# Altium footprint library adafruit.PCBLIB: 643 footprints (part 25 of 41)
Each footprint in its own frame and in the unit in brackets; x right, y up, seen from the top. Pads: shape width x height; smd on the part's side, far side on the other; paste and mask are expansions set on the pad; w line width, h text height; cw(c..) or ccw(c..) is an arc to the next point about the centre after c.
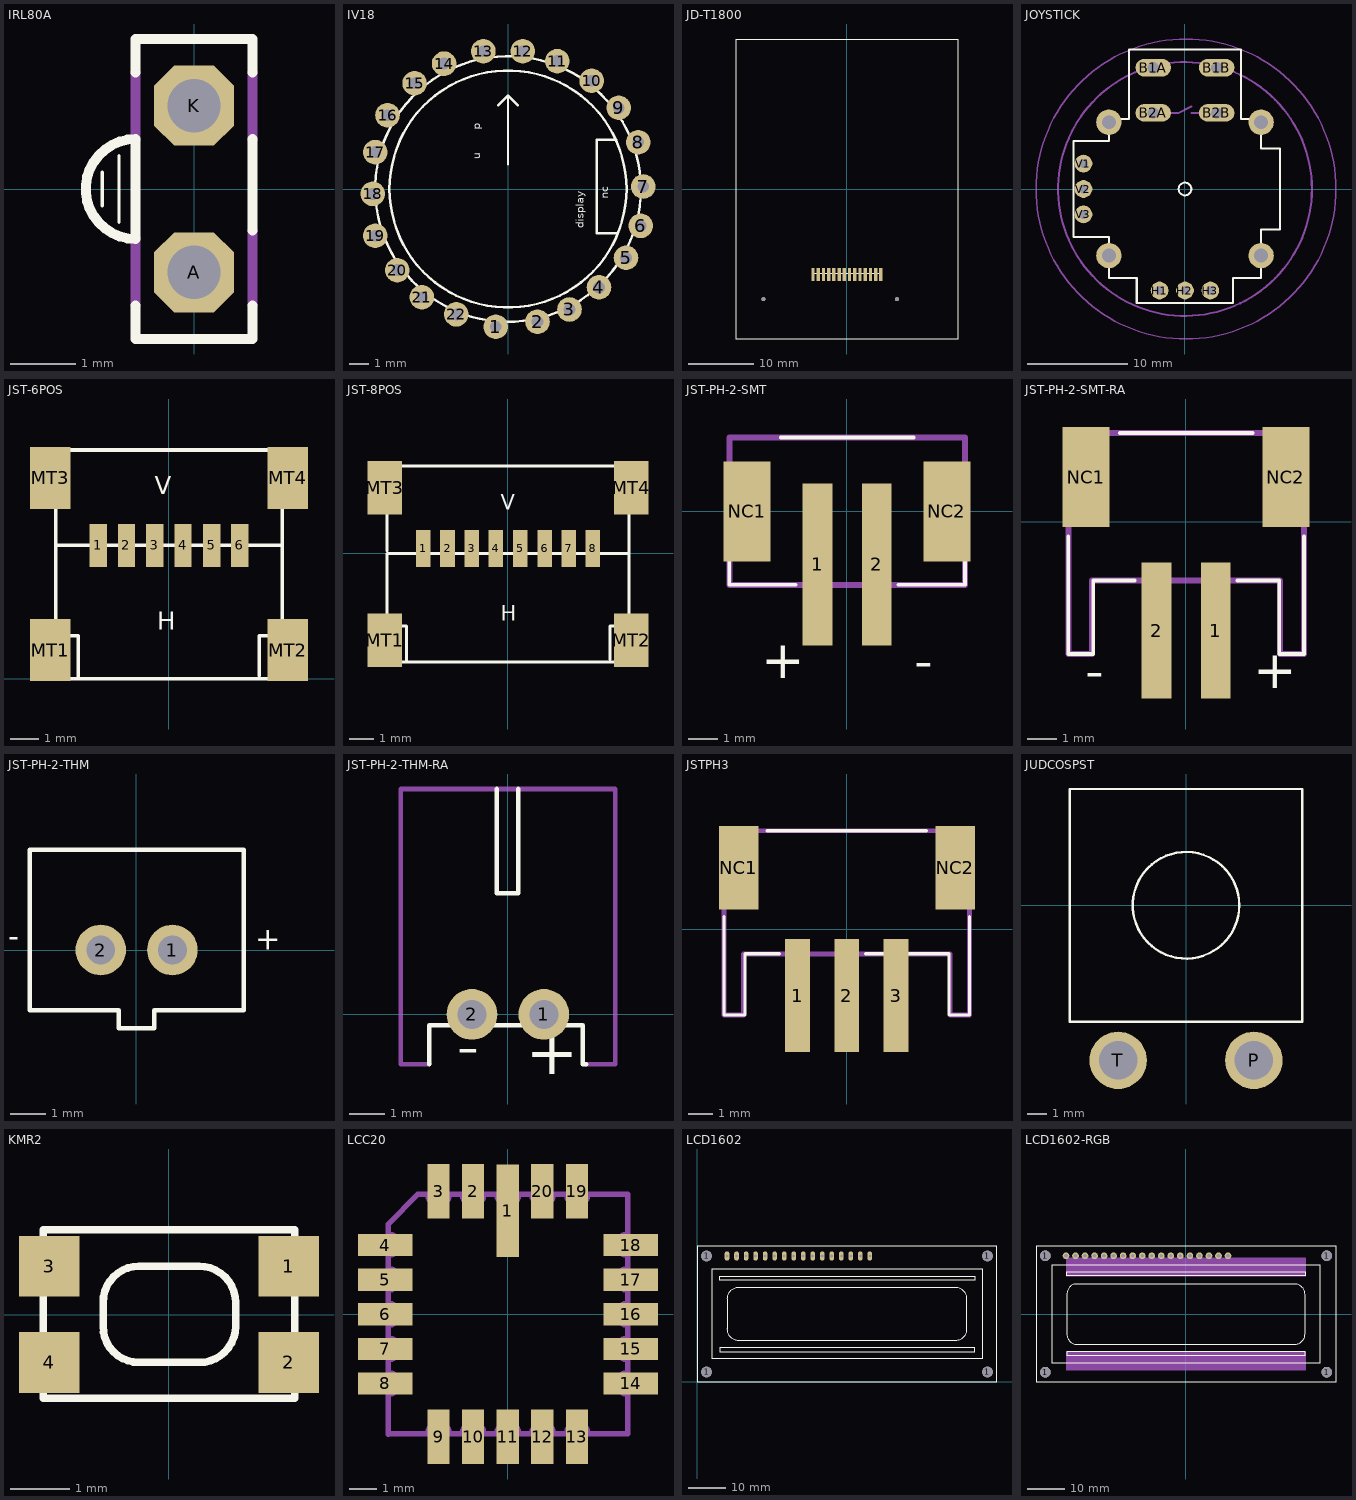
[diagram p24: the footprints below, top view; thin cyan lines are the x and y axes]

## IRL80A [mil]
pads (2):
  oct 48x48 hole 32: A(0,-50) K(0,50)
Top Overlay:
  lines w2: -55,-10 -55,10 ; -45,-20 -45,20
  lines w6: -35,-70 -35,-90 35,-90 35,-70 ; -35,70 -35,90 35,90 35,70 ; 35,-25 35,30 ; -35,-30 -35,30 ccw(c-35,0) -35,-30
Courtyard Bottom:
  lines w6: -35,-70 -35,-30 ; -35,30 -35,70 ; 35,-70 35,-25 ; 35,30 35,70

## IV18 [mil]
pads (22):
  round 50 hole 24: 1(-25,-280) 2(60,-270) 3(125,-245) 4(185,-200) 5(240,-140) 6(270,-75) 7(275,5) 8(265,95) 9(225,165) 10(170,220) 11(100,260) 12(30,280) 13(-50,280) 14(-130,255) 15(-190,215) 16(-245,150) 17(-270,75) 18(-275,-10) 19(-270,-95) 20(-225,-165) 21(-175,-220) 22(-105,-255)
Top Overlay:
  circle w5: c0,0 r241
  circle w5: c0,0 r270
  lines w5: -20,170 0,190 ; 0,50 0,190 ; 20,170 0,190 ; 220,-90 180,-90 180,100 220,100
  text "display" at 160,-80 h27.2
  text "nc" at 210,-20 h27.2
  text "u" at -50,60 h27.2
  text "p" at -50,120 h27.2

## JD-T1800 [mil]
pads (16):
  round 24 hole 24: 1(-503.94,-665.35) 1(302,-665.35)
  rect 20x79 smd: 1(205,-515.75) 2(174,-515.75) 3(142,-515.75) 4(111,-515.75) 5(79,-515.75) 6(48,-515.75) 7(16,-515.75) 8(-15.75,-515.75) 9(-47.24,-515.75) 10(-78.74,-515.75) 11(-110.24,-515.75) 12(-141.73,-515.75) 13(-173.23,-515.75) 14(-204.72,-515.75)
Top Overlay:
  lines w5: -204.72,-507.87 205,-507.87 ; -669.29,-905.51 670,-905.51 670,906 -669.29,906 -669.29,-905.51

## JOYSTICK [mil]
pads (14):
  oval 140x70 hole 44: B1A(-125,478) B1B(125,478) B2A(-125,300) B2B(125,300)
  round 70 hole 35: H1(-100,-400) H2(0,-400) H3(100,-400) V1(-400,100) V2(-400,0) V3(-400,-100)
  round 100 hole 55: MOUNT1(-300,263) MOUNT2(-300,-262.5) MOUNT3(300,-262.5) MOUNT4(300,263)
Top Overlay:
  circle w8: c0,0 r25
  lines w8: -440,-190 -300,-190 -300,-350 -190,-350 -190,-450 190,-450 190,-350 300,-350 300,-160 375,-160 375,160 300,160 300,275 220,275 220,550 -220,550 -220,275 -300,275 -300,190 -440,190 -440,-190
Courtyard Bottom:
  circle w8: c0,0 r500
  circle w5: c4,0 r591
  lines w8: -75,300 -25,300 25,325 ; 25,300 75,300

## JST-6POS [mil]
pads (10):
  rect 24x60 smd: 1(-98.43,186) 2(-59.06,186) 3(-19.68,186) 4(20,186) 5(60,186) 6(99,186)
  rect 56x87 smd: MT1(-165.35,40) MT2(166,40) MT3(-165.35,280) MT4(166,280)
Top Overlay:
  lines w5: 126,4 126,60 158,60 ; -157.48,60 -157.48,0 -125.98,0 ; -157.48,60 -157.48,186 ; -157.48,60 -125.98,60 -125.98,0 ; -157.48,186 158,186 ; -157.48,186 -157.48,319 158,319 158,186 ; -125.98,0 158,0 158,60 ; 158,60 158,186
  text "H" at -15.75,60 h42.5
  text "V" at -19.68,249 h42.5

## JST-8POS [mil]
pads (12):
  rect 24x60 smd: 1(-137.8,8) 2(-98.43,8) 3(-59.06,8) 4(-19.68,8) 5(20,8) 6(60,8) 7(99,8) 8(138,8)
  rect 56x87 smd: MT1(-200.79,-141.73) MT2(201,-141.73) MT3(-200.79,107) MT4(201,107)
Top Overlay:
  lines w5: -196.85,4 -196.85,142 197,142 197,0 ; 166,-173.23 166,-118.11 197,-118.11 ; -196.85,-118.11 -196.85,-177.17 -165.35,-177.17 ; -196.85,-118.11 -196.85,0 197,0 ; -196.85,-118.11 -165.35,-118.11 -165.35,-177.17 ; -165.35,-177.17 197,-177.17 197,-118.11 ; 197,-118.11 197,0
  text "V" at -11.81,63 h42.5
  text "H" at -11.81,-118.11 h42.5

## JST-PH-2-SMT [mil]
pads (4):
  rect 40x217 smd: 1(-39.37,-70.87) 2(40,-70.87)
  rect 63x134 smd: NC1(-133.86,0) NC2(134,0)
Top Overlay:
  lines w5: -157.48,-19.68 -157.48,-98.43 -68.9,-98.43 ; -88.58,99 89,99 ; 69,-98.43 158,-98.43 158,-19.68
  text "+" at -114.72,-240 h86.8
  text "-" at 90,-240 h86.8
Courtyard Bottom:
  lines w8: -157.48,-98.43 -157.48,99 158,99 158,-98.43 -157.48,-98.43

## JST-PH-2-SMT-RA [mil]
pads (4):
  rect 40x182 smd: 1(40,-145.67) 2(-39.37,-145.67)
  rect 63x134 smd: NC1(-133.86,60) NC2(134,60)
Top Overlay:
  lines w5: -157.48,-19.68 -157.48,-177.17 -124.02,-177.17 -124.02,-78.74 -68.9,-78.74 ; -88.58,119 89,119 ; 69,-78.74 125,-78.74 125,-177.17 158,-177.17 158,-19.68
  text "+" at 90,-240 h86.8
  text "-" at -135,-240 h86.8
Courtyard Bottom:
  lines w8: -157.48,-177.17 -157.48,119 158,119 158,-177.17 126,-177.17 126,-78.74 -125.98,-78.74 -125.98,-177.17 -157.48,-177.17

## JST-PH-2-THM [mil]
pads (2):
  round 56 hole 32: 1(40,0) 2(-39.37,0)
Top Overlay:
  lines w5: -118.11,-66.93 -19.68,-66.93 -19.68,-86.61 20,-86.61 20,-66.93 119,-66.93 119,111 -118.11,111 -118.11,-66.93
  text "+" at 160,30 h42.5
  text "-" at -130,30 h42.5

## JST-PH-2-THM-RA [mil]
pads (2):
  round 56 hole 32: 1(40,0) 2(-39.37,0)
Top Overlay:
  lines w5: -86.61,-55.12 -86.61,-11.81 83,-11.81 83,-55.12 87,-55.12 ; -11.81,249 -11.81,134 12,134 12,249
  text "+" at 20,-82.52 h86.8
  text "-" at -56.26,-74.65 h86.8
Courtyard Bottom:
  lines w5: -86.61,-55.12 -118.11,-55.12 -118.11,249 119,249 119,-55.12 87,-55.12

## JSTPH3 [mil]
pads (5):
  rect 40x182 smd: 1(-78.74,-106.3) 2(0,-106.3) 3(79,-106.3)
  rect 63x134 smd: NC1(-173.23,99) NC2(174,99)
Top Overlay:
  lines w5: -196.85,20 -196.85,-137.8 -163.39,-137.8 -163.39,-39.37 -108.27,-39.37 ; -127.95,158 128,158 ; 30,-39.37 164,-39.37 164,-137.8 197,-137.8 197,20
Courtyard Bottom:
  lines w8: -196.85,-137.8 -196.85,158 197,158 197,-137.8 166,-137.8 166,-39.37 -165.35,-39.37 -165.35,-137.8 -196.85,-137.8

## JUDCOSPST [mil]
pads (2):
  round 118.5 hole 79: P(140,-320) T(-140,-320)
Top Overlay:
  circle w5: c0,0 r110
  lines w5: -240,-240 240,-240 240,240 -240,240 -240,-240

## KMR2 [mil]
pads (4):
  rect 40x40 smd: 1(79,32) 2(79,-31.5) 3(-78.74,32) 4(-78.74,-31.5)
Top Overlay:
  lines w5: -82.68,-55.12 83,-55.12 83,56 -82.68,56 -82.68,-55.12 ; -43.31,-7.87 ccw(c-19.68,-7.87) -19.69,-31.5 20,-31.5 ccw(c20.19,-7.68) 44,-7.87 44,8 ccw(c20,8) 20,32 -19.68,32 ccw(c-19.5,8.19) -43.31,8 -43.31,-7.87

## LCC20 [mil]
pads (20):
  rect 32x134 smd: 1(0,150)
  rect 32x79 smd: 2(-50,178) 3(-100,178) 9(-100,-177.17) 10(-50,-177.17) 11(0,-177.17) 12(50,-177.17) 13(100,-177.17) 19(100,178) 20(50,178)
  rect 79x32 smd: 4(-177.17,100) 5(-177.17,50) 6(-177.17,0) 7(-177.17,-50) 8(-177.17,-100) 14(178,-100) 15(178,-50) 16(178,0) 17(178,50) 18(178,100)
Courtyard Bottom:
  lines w8: -173.23,-173.62 -173.23,-173.23 ; -173.23,-115.75 -173.23,-173.23 ; -173.23,-84.25 -173.23,-65.75 ; -173.23,-34.25 -173.23,-15.75 ; -173.23,16 -173.23,35 ; -173.23,66 -173.23,85 ; -173.23,116 -173.23,130 -129.92,174 -115.75,174 ccw(c-100,174) -84.25,174 -65.75,174 ccw(c-50,174) -34.25,174 -15.75,174 ccw(c0.12,174) 16,174 35,174 ccw(c50.5,174) 66,174 85,174 ccw(c100.5,174) 116,174 174,174 174,116 ccw(c174,100.5) 174,85 174,66 ccw(c174,50.5) 174,35 174,16 ccw(c174,0.12) 174,-15.75 174,-34.25 ccw(c174,-50) 174,-65.75 174,-84.25 ccw(c174,-100) 174,-115.75 174,-173.23 116,-173.23 ; -173.17,-115.75 ccw(c-173.17,-100) -173.17,-84.25 ; -173.17,-65.75 ccw(c-173.17,-50) -173.17,-34.25 ; -173.17,-15.75 ccw(c-173.17,0.12) -173.17,16 ; -173.17,35 ccw(c-173.17,50.5) -173.17,66 ; -173.17,85 ccw(c-173.17,100.5) -173.17,116 ; -115.75,-173.23 -173.23,-173.23 ; -115.75,-173.17 cw(c-100,-173.17) -84.25,-173.17 ; -84.25,-173.23 -65.75,-173.23 ; -65.75,-173.17 cw(c-50,-173.17) -34.25,-173.17 ; -34.25,-173.23 -15.75,-173.23 ; -15.75,-173.17 cw(c0.12,-173.17) 16,-173.17 ; 16,-173.23 35,-173.23 ; 35,-173.17 cw(c50.5,-173.17) 66,-173.17 ; 66,-173.23 85,-173.23 ; 85,-173.17 cw(c100.5,-173.17) 116,-173.17

## LCD1602 [mil]
pads (20):
  round 111 hole 111: 1(100,100) 1(100,1318) 1(3050,100) 1(3050,1318)
  oval 48x96 hole 32: 1(315,1318) 2(415,1318) 3(515,1318) 4(615,1318) 5(715,1318) 6(815,1318) 7(915,1318) 8(1015,1318) 9(1115,1318) 10(1215,1318) 11(1315,1318) 12(1415,1318) 13(1515,1318) 14(1615,1318) 15(1715,1318) 16(1815,1318)
Top Overlay:
  lines w5: 0,0 3150,0 3150,1418 0,1418 0,0 ; 158,237 2993,237 2993,1182 158,1182 158,237 ; 237,315 2914,315 2914,355 237,355 237,315 ; 237,1063 2914,1063 2914,1103 237,1103 237,1063 ; 315,552 315,867 cw(c433.5,866.5) 434,985 2717,985 cw(c2717,867) 2835,867 2835,552 cw(c2717,552) 2717,434 434,434 cw(c433.5,552.5) 315,552

## LCD1602-RGB [mil]
pads (22):
  round 111 hole 111: 1(-1476.38,-610.24) 1(-1476.38,611) 1(1477,-610.24) 1(1477,611)
  round 70 hole 40: 1(-1259.84,611) 2(-1159.84,611) 3(-1059.84,611) 4(-959.84,611) 5(-859.84,611) 6(-759.84,611) 7(-659.84,611) 8(-559.84,611) 9(-459.84,611) 10(-359.84,611) 11(-259.84,611) 12(-159.84,611) 13(-59.84,611) 14(41,611) 15(141,611) 16(241,611) 17(341,611) 18(441,611)
Top Overlay:
  lines w5: -1574.8,-708.66 1575,-708.66 1575,709 -1574.8,709 -1574.8,-708.66 ; -1403.54,-517.72 1404,-517.72 1404,518 -1403.54,518 -1403.54,-517.72 ; -1250,-435.04 1250,-435.04 1250,-395.67 -1250,-395.67 -1250,-435.04 ; -1250,-198.82 -1250,197 cw(c-1144.46,209.46) -1156.93,315 1147,315 cw(c1139.5,204.5) 1250,197 1250,-198.82 cw(c1139.44,-206.37) 1147,-316.93 -1156.93,-316.93 cw(c-1144.41,-211.34) -1250,-198.82 ; -1250,403 1250,403 1250,443 -1250,443 -1250,403
Mechanical 10:
  rectangle: -1259.84,394 1260,591
  rectangle: -1259.84,-590.55 1260,-393.7